# EAGLE library part ADS7951_ (library satellite)
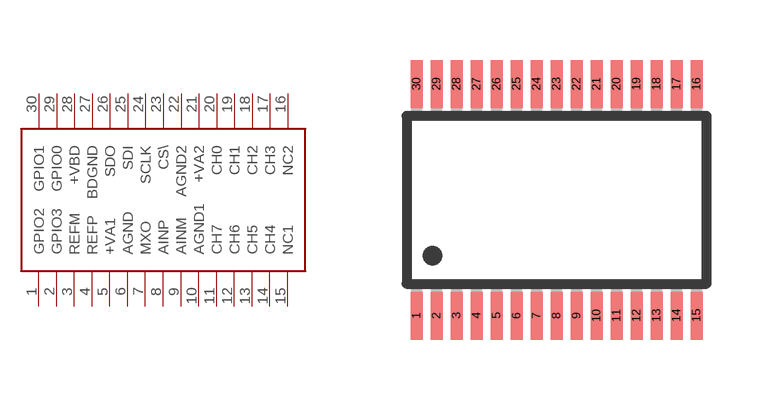
[diagram p17: symbol with the pads of TSSOP30_; footprint TSSOP30_]

Designator prefix -

## ADS7951_  [TSSOP30_]
1  GPIO2
2  GPIO3
3  REFM
4  REFP
5  +VA1
6  AGND
7  MXO
8  AINP
9  AINM
10  AGND1
11  CH7
12  CH6
13  CH5
14  CH4
15  NC1
16  NC2
17  CH3
18  CH2
19  CH1
20  CH0
21  +VA2
22  AGND2
23  CS\
24  SCLK
25  SDI
26  SDO
27  BDGND
28  +VBD
29  GPIO0
30  GPIO1

## Footprint TSSOP30_ (pad centres in mm)
smd 0.3 x 1.2: 1 -3.5,-2.9; 2 -3,-2.9; 3 -2.5,-2.9; 4 -2,-2.9; 5 -1.5,-2.9; 6 -1,-2.9; 7 -0.5,-2.9; 8 0,-2.9; 9 0.5,-2.9; 10 1,-2.9; 11 1.5,-2.9; 12 2,-2.9; 13 2.5,-2.9; 14 3,-2.9; 15 3.5,-2.9; 16 3.5,2.9; 17 3,2.9; 18 2.5,2.9; 19 2,2.9; 20 1.5,2.9; 21 1,2.9; 22 0.5,2.9; 23 0,2.9; 24 -0.5,2.9; 25 -1,2.9; 26 -1.5,2.9; 27 -2,2.9; 28 -2.5,2.9; 29 -3,2.9; 30 -3.5,2.9